# Altium footprint library LT-Q-5_L.PcbLib: 1 footprints
Each footprint in its own frame and in the unit in brackets; x right, y up, seen from the top. Pads: shape width x height; smd on the part's side, far side on the other; paste and mask are expansions set on the pad; w line width, h text height; cw(c..) or ccw(c..) is an arc to the next point about the centre after c.
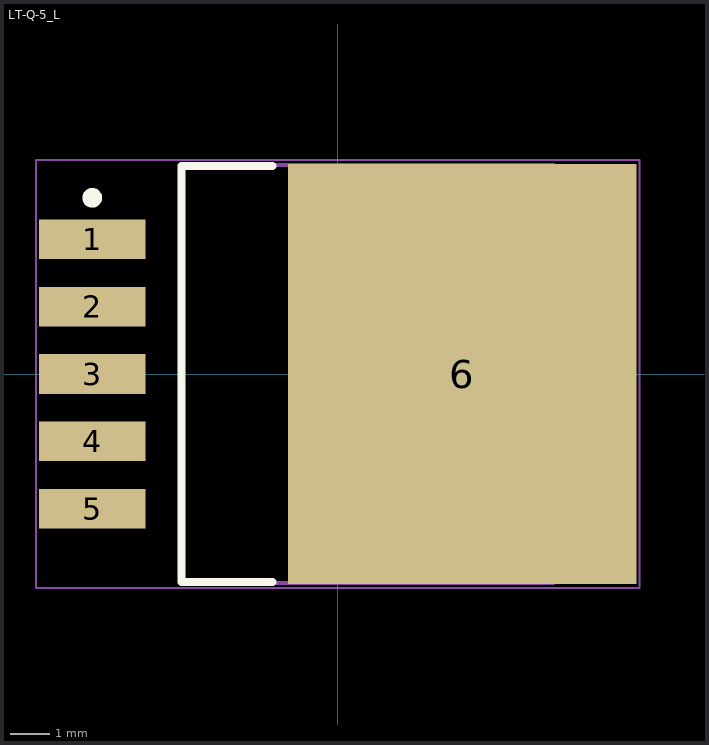
[diagram p0: the footprint, top view; thin cyan lines are the x and y axes]

## LT-Q-5_L [mm] "DPAK, 5-Leads, Body 10.22x8.89mm, Pitch 1.702mm, IPC High Density"
height 4.78
pads (6):
  rect 2.7x1 smd: 1(-6.2,3.4) 2(-6.2,1.7)
  rect 2.7x1 smd mask+0.1: 3(-6.2,0) 4(-6.2,-1.7) 5(-6.2,-3.4)
  rect 8.8x10.6 smd mask+0.1: 6(3.15,0)
Top Overlay:
  circle w0.25: c-6.2,4.45 r0.125
  lines w0.2: -1.65,-5.25 -3.95,-5.25 -3.95,5.25 -1.65,5.25
Mechanical 13:
  lines w0.1: -3.95,-5.275 -3.95,5.275 5.45,5.275 5.45,-5.275 -3.95,-5.275
Mechanical 15:
  lines w0.05: -7.625,-5.4 -7.625,5.4 7.625,5.4 7.625,-5.4 -7.625,-5.4
  lines w0.1: -0.5,0 0.5,0 ; 0,-0.5 0,0.5
3D body: height 4.78, standoff 0, extent -3.95,-5.275 5.45,5.275